# Altium footprint library InvenSense.PcbLib: 2 footprints
Each footprint in its own frame and in the unit in brackets; x right, y up, seen from the top. Pads: shape width x height; smd on the part's side, far side on the other; paste and mask are expansions set on the pad; w line width, h text height; cw(c..) or ccw(c..) is an arc to the next point about the centre after c.
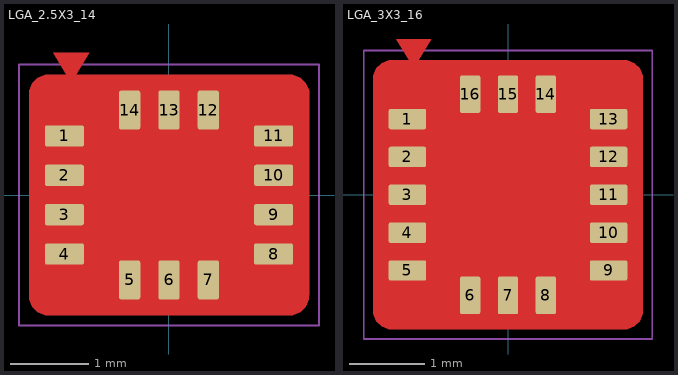
[diagram p0: the footprints below, top view; thin cyan lines are the x and y axes]

## LGA_2.5X3_14 [mm]
pads (14):
  rrect20% 0.497x0.27 smd mask+0.051: 1(-1.328,0.75) 2(-1.328,0.25) 3(-1.328,-0.25) 4(-1.328,-0.75) 8(1.329,-0.75) 9(1.329,-0.25) 10(1.329,0.25) 11(1.329,0.75)
  rrect20% 0.27x0.497 smd mask+0.051: 5(-0.5,-1.078) 6(0,-1.078) 7(0.5,-1.078) 12(0.5,1.079) 13(0,1.079) 14(-0.5,1.079)
Top Layer:
  pour cut-out: -1.524,1.528 -1.575,1.528 -1.668,1.489 -1.739,1.418 -1.778,1.325 -1.778,1.274 -1.778,-1.274 -1.778,-1.325 -1.739,-1.418 -1.668,-1.489 -1.575,-1.528 -1.524,-1.528 1.524,-1.528 1.575,-1.528 1.668,-1.489 1.739,-1.418 1.778,-1.325 1.778,-1.274 1.778,1.274 1.778,1.325 1.739,1.418 1.668,1.489 1.575,1.528 1.524,1.528
  region: -1.245,1.426 -1.016,1.807 -1.473,1.807
Top Courtyard:
  lines w0.025: -1.905,-1.655 1.905,-1.655 1.905,1.655 -1.905,1.655 -1.905,-1.655
Top Component Outline:
  lines w0.025: -0.625,-0.84 -0.625,-1.19 -0.375,-1.19 -0.375,-0.84 ; -0.125,-0.84 -0.125,-1.19 0.125,-1.19 0.125,-0.84 ; 0.375,-0.84 0.375,-1.19 0.625,-1.19 0.625,-0.84 ; -1.5,-1.25 -1.5,1.25 1.5,1.25 1.5,-1.25 -1.5,-1.25 ; -1.44,-0.875 -1.44,-0.625 -1.09,-0.625 -1.09,-0.875 -1.44,-0.875 ; -1.44,-0.375 -1.09,-0.375 -1.09,-0.125 -1.44,-0.125 -1.44,-0.375 ; -1.44,0.125 -1.44,0.375 -1.09,0.375 -1.09,0.125 -1.44,0.125 ; -1.44,0.625 -1.44,0.875 -1.09,0.875 -1.09,0.625 -1.44,0.625 ; -0.625,0.84 -0.625,1.19 -0.375,1.19 -0.375,0.84 -0.625,0.84 ; -0.125,0.84 -0.125,1.19 0.125,1.19 0.125,0.84 -0.125,0.84 ; 0.375,0.84 0.625,0.84 0.625,1.19 0.375,1.19 0.375,0.84 ; 1.09,-0.875 1.44,-0.875 1.44,-0.625 1.09,-0.625 1.09,-0.875 ; 1.09,-0.375 1.09,-0.125 1.44,-0.125 1.44,-0.375 1.09,-0.375 ; 1.09,0.125 1.44,0.125 1.44,0.375 1.09,0.375 1.09,0.125 ; 1.09,0.625 1.09,0.875 1.44,0.875 1.44,0.625 1.09,0.625
3D body: height 0.91, standoff 0.05, extent -1.5,-1.25 1.5,1.25

## LGA_3X3_16 [mm]
pads (16):
  rrect20% 0.497x0.27 smd mask+0.051: 1(-1.328,1) 2(-1.328,0.5) 3(-1.328,0) 4(-1.328,-0.5) 5(-1.328,-1) 9(1.328,-1) 10(1.328,-0.5) 11(1.328,0) 12(1.328,0.5) 13(1.328,1)
  rrect20% 0.27x0.497 smd mask+0.051: 6(-0.5,-1.328) 7(0,-1.328) 8(0.5,-1.328) 14(0.5,1.328) 15(0,1.328) 16(-0.5,1.328)
Top Layer:
  pour cut-out: -1.524,1.778 -1.575,1.778 -1.668,1.739 -1.739,1.668 -1.778,1.575 -1.778,1.524 -1.778,-1.524 -1.778,-1.575 -1.739,-1.668 -1.668,-1.739 -1.575,-1.778 -1.524,-1.778 1.524,-1.778 1.575,-1.778 1.668,-1.739 1.739,-1.668 1.778,-1.575 1.778,-1.524 1.778,1.524 1.778,1.575 1.739,1.668 1.668,1.739 1.575,1.778 1.524,1.778
  region: -1.245,1.676 -1.016,2.057 -1.473,2.057
Top Courtyard:
  lines w0.025: -1.905,-1.905 1.905,-1.905 1.905,1.905 -1.905,1.905 -1.905,-1.905
Top Component Outline:
  lines w0.025: -1.5,-1.5 -1.5,1.5 1.5,1.5 1.5,-1.5 -1.5,-1.5 ; -1.44,-1.125 -1.09,-1.125 -1.09,-0.875 -1.44,-0.875 -1.44,-1.125 ; -1.44,-0.625 -1.44,-0.375 -1.09,-0.375 -1.09,-0.625 -1.44,-0.625 ; -1.44,-0.125 -1.09,-0.125 -1.09,0.125 -1.44,0.125 -1.44,-0.125 ; -1.44,0.375 -1.44,0.625 -1.09,0.625 -1.09,0.375 -1.44,0.375 ; -1.44,0.875 -1.44,1.125 -1.09,1.125 -1.09,0.875 -1.44,0.875 ; -0.625,-1.44 -0.375,-1.44 -0.375,-1.09 -0.625,-1.09 -0.625,-1.44 ; -0.625,1.09 -0.625,1.44 -0.375,1.44 -0.375,1.09 -0.625,1.09 ; -0.125,-1.44 -0.125,-1.09 0.125,-1.09 0.125,-1.44 -0.125,-1.44 ; -0.125,1.09 -0.125,1.44 0.125,1.44 0.125,1.09 -0.125,1.09 ; 0.375,-1.44 0.625,-1.44 0.625,-1.09 0.375,-1.09 0.375,-1.44 ; 0.375,1.09 0.625,1.09 0.625,1.44 0.375,1.44 0.375,1.09 ; 1.09,-1.125 1.44,-1.125 1.44,-0.875 1.09,-0.875 1.09,-1.125 ; 1.09,-0.625 1.44,-0.625 1.44,-0.375 1.09,-0.375 1.09,-0.625 ; 1.09,-0.125 1.09,0.125 1.44,0.125 1.44,-0.125 1.09,-0.125 ; 1.09,0.375 1.44,0.375 1.44,0.625 1.09,0.625 1.09,0.375 ; 1.09,0.875 1.09,1.125 1.44,1.125 1.44,0.875 1.09,0.875
3D body: height 0.75, standoff 0.05, extent -1.5,-1.5 1.5,1.5